# Altium schematic symbol library Quectel_VTS_schlib.SchLib: 8 symbols
Pins are listed as number, name and electrical type; pins without a type are passive.

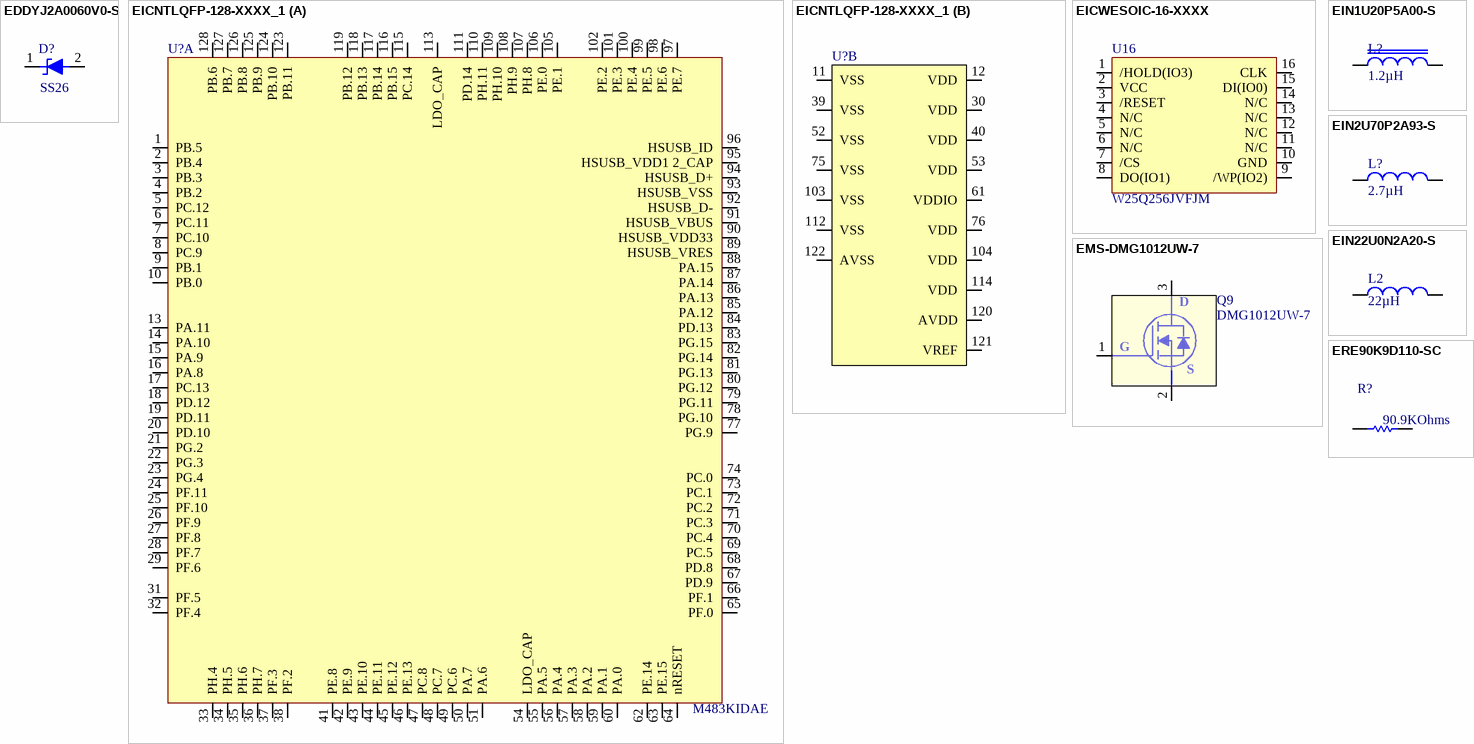
[diagram p0: symbols EDDYJ2A0060V0-S to ERE90K9D110-SC]

## EDDYJ2A0060V0-S
designator D?, comment value SS26  (hidden comment: DIODE SCHOTTKY 60V 2A SMB)
Manufacturer: Yangjie Technology; Internal Part Number: EDDYJ2A0060V0-S; Vendor Name: Custom; 3rd Auxiliary Field: ROHS3 Compliant; Component Height (mm): 2.61mm; Temp Co: -55 ~+150; Part Type: DIODE SCHOTTKY 60V 2A SMB; Vendor Part Number: Custom; Manufacturer Part Number: SS26; 4th Auxiliary Field: *; 1st Auxiliary Field: 60V; 2nd Auxiliary Field: 2A
footprint DIOM4536X26N (Molded Diode, 2-Leads, Body 4.50x3.60mm, IPC Medium Density)
footprint DIOM4536X26N (Molded Diode, 2-Leads, Body 4.50x3.62mm, IPC Medium Density)
pins: 1 K, 2 A

## EICNTLQFP-128-XXXX_1
designator U?, comment value M483KIDAE  (hidden comment: MICROCONTROLLER ARM CORTEX)
Manufacturer: Nuvoton Technology Corporation of America; Vendor Part Number: M483KIDAE-ND; Internal Part Number: EICNTLQFP-128-XXXX; Vendor Name: Digi-Key; 3rd Auxiliary Field: RoHS Compliant; 1st Auxiliary Field: 1.8V ~ 3.6V; Component Height (mm): 1.60mm; Temp Co: -40°C ~ 105°C (TA); 2nd Auxiliary Field: 175uA; Part Type: MICROCONTROLLER ARM CORTEX; 4th Auxillary field: *; Manufacturer Part Number: M483KIDAE
footprint TSQFP40P1600X1600X160-128N (TSQFP, 128-Leads, Body 14.00x14.00mm, Pitch 0.40mm, IPC Medium Density)
part A pins: 1 PB.5, 2 PB.4, 3 PB.3, 4 PB.2, 5 PC.12, 6 PC.11, 7 PC.10, 8 PC.9, 9 PB.1, 10 PB.0, 13 PA.11, 14 PA.10, 15 PA.9, 16 PA.8, 17 PC.13, 18 PD.12, 19 PD.11, 20 PD.10, 21 PG.2, 22 PG.3, 23 PG.4, 24 PF.11, 25 PF.10, 26 PF.9, 27 PF.8, 28 PF.7, 29 PF.6, 31 PF.5, 32 PF.4, 33 PH.4, 34 PH.5, 35 PH.6, 36 PH.7, 37 PF.3, 38 PF.2, 41 PE.8, 42 PE.9, 43 PE.10, 44 PE.11, 45 PE.12, 46 PE.13, 47 PC.8, 48 PC.7, 49 PC.6, 50 PA.7, 51 PA.6, 54 LDO_CAP, 55 PA.5, 56 PA.4, 57 PA.3, 58 PA.2, 59 PA.1, 60 PA.0, 62 PE.14, 63 PE.15, 64 nRESET, 65 PF.0, 66 PF.1, 67 PD.9, 68 PD.8, 69 PC.5, 70 PC.4, 71 PC.3, 72 PC.2, 73 PC.1, 74 PC.0, 77 PG.9, 78 PG.10, 79 PG.11, 80 PG.12, 81 PG.13, 82 PG.14, 83 PG.15, 84 PD.13, 85 PA.12, 86 PA.13, 87 PA.14, 88 PA.15, 89 HSUSB_VRES, 90 HSUSB_VDD33, 91 HSUSB_VBUS, 92 HSUSB_D-, 93 HSUSB_VSS, 94 HSUSB_D+, 95 HSUSB_VDD1 2_CAP, 96 HSUSB_ID, 97 PE.7, 98 PE.6, 99 PE.5, 100 PE.4, 101 PE.3, 102 PE.2, 105 PE.1, 106 PE.0, 107 PH.8, 108 PH.9, 109 PH.10, 110 PH.11, 111 PD.14, 113 LDO_CAP, 115 PC.14, 116 PB.15, 117 PB.14, 118 PB.13, 119 PB.12, 123 PB.11, 124 PB.10, 125 PB.9, 126 PB.8, 127 PB.7, 128 PB.6
part B pins: 11 VSS, 12 VDD, 30 VDD, 39 VSS, 40 VDD, 52 VSS, 53 VDD, 61 VDDIO, 75 VSS, 76 VDD, 103 VSS, 104 VDD, 112 VSS, 114 VDD, 120 AVDD, 121 VREF, 122 AVSS

## EICWESOIC-16-XXXX
designator U16, comment value W25Q256JVFJM  (hidden comment: IC FLASH 256M SPI 133MHZ  16SOIC)
Manufacturer: Winbond; Vendor Part Number: custom; Internal Part Number: EICWESOIC-16-XXXX; Vendor Name: custom(Windbond); 3rd Auxiliary Field: RoHS Compliant; 1st Auxiliary Field: 2.7V-3.6V; Component Height (mm): 2.49mm; Temp Co: -40C to +105C; Part Type: IC FLASH 256M SPI 133MHZ  16SOIC; 4th Auxillary field: *; Manufacturer Part Number: W25Q256JVFJM
footprint SOIC127P1031X264-16N (ADUM4070ARIZ-RL, IC REG PUSH-PULL ISO ADJ 16SOIC)
footprint SOIC127P1030X265-16N (ISO7240CDWR & ISO7231ADWR, DGTL ISO 2.5KV GEN PURP 16SOIC & DGTL ISO 4KV 3CH GEN PURP 16SOIC)
pins: 1 /HOLD(IO3), 2 VCC, 3 /RESET, 4 N/C, 5 N/C, 6 N/C, 7 /CS, 8 DO(IO1), 9 /WP(IO2), 10 GND, 11 N/C, 12 N/C, 13 N/C, 14 N/C, 15 DI(IO0), 16 CLK

## EIN1U20P5A00-S
designator L?, comment value 1.2µH  (hidden comment: FIXED IND 1.2UH 5A 24 MOHM SMD)
Internal part number: EIN1U20P5A00-S; Manufacturer: Bourns Inc.; Manufacturer Part Number: SRR4828A-1R2Y; Vendor Part number: SRR4828A-1R2YCT-ND; 3rd Auxillary field: RoHS Compliant; 4th Auxillary field: AEC-Q200; Temp co: -40°C ~ 150°C; vendor name: Digi-Key; 2nd Auxillary field: 24mOhm Max; Component Height: 3.00mm; Part type: FIXED IND 1.2UH 5A 24 MOHM SMD; 1ST Auxillary field: 5A
footprint IND_SRR4828A-1R2Y
pins: 1, 2

## EIN2U70P2A93-S
designator L?, comment value 2.7µH  (hidden comment: FIXED IND 2.7UH 2.93A 32 MOHM)
Internal part number: EIN2U70P2A93-S; Manufacturer: Würth Elektronik; Manufacturer Part Number: 74406043027; Vendor Part number: 732-10816-1-ND; 3rd Auxillary field: ROHS3 Compliant; Temp co: -40°C ~ 125°C; vendor name: Digi-Key; 2nd Auxillary field: 32mOhm Max; 4th Auxillary field: *; Component Height: 3.00mm; Part type: FIXED IND 2.7UH 2.93A 32 MOHM; 1ST Auxillary field: 2.93A
footprint IND_74406043027 (Footprint not found)
pins: 1, 2

## EIN22U0N2A20-S
designator L2, comment value 22µH  (hidden comment: FIXED IND 22UH 2.2A 55 MOHM SMD)
Internal part number: EIN22U0N2A20-S; Manufacturer: TDK Corporation; Manufacturer Part Number: CLF10040T-220M-D; Vendor Part number: 445-9601-2-ND; 3rd Auxillary field: RoHS Compliant; 4th Auxillary field: AEC-Q200; Temp co: -40°C ~ 150°C; vendor name: Digi-Key; 2nd Auxillary field: 55mOhm; Component Height: 4.10mm; Part type: FIXED IND 22UH 2.2A 55 MOHM SMD; 1ST Auxillary field: 2.2A
footprint IND_CLF10040T-220M-D
pins: 1, 2

## EMS-DMG1012UW-7
designator Q9, comment value DMG1012UW-7  (hidden comment: MOSFET N-CH 20V 1A SOT323)
Internal Part Number: EMS-DMG1012UW-7; Manufacturer: Diodes Incorporated; Vendor Part Number: DMG1012UW-7DICT-ND; 3rd Auxiliary Field: RoHS Compliant; Component Height (mm): 1.10mm; Temp Coefficient: -55°C ~ 150°C (TJ); Vendor: Digi-Key; 2nd Auxiliary Field: 1A; Manufacturer Part Number: DMG1012UW-7; Part Type: MOSFET N-CH 20V 1A SOT323; 1st Auxiliary Field: 20V
footprint SOT65P210X100-3N (SOT23, 3-Leads, Body 2.00x2.10mm, Pitch 0.65mm, IPC Medium Density)
pins: 1 GATE, 2 SOURCE, 3 DRAIN
text: D; G; S

## ERE90K9D110-SC
designator R?, comment value 90.9KOhms  (hidden comment: RES SMD 90.9KOHM 0.1% 1/10W 0603)
Manufacturer: Susumu; Vendor Part Number: RG16P90.9KBCT-ND; Manufacturer Part Number: RG1608P-9092-B-T5; Internal Part Number: ERE90K9D110-SC; Vendor Name: Digi-Key; 3rd Auxiliary Field: RoHS Compliant; Component Height (mm): 0.50mm; Temp Co: ±25ppm/°C; 1st Auxiliary Field: 0.1W; Part Type: RES SMD 90.9KOHM 0.1% 1/10W 0603; 2nd Auxiliary Field: ±0.1%; 4th Auxillary field: *
footprint SMDR0603
pins: 1, 2